# Altium schematic symbol library NCS21xR.SchLib: 1 symbol
Pins are listed as number, name and electrical type; pins without a type are passive.

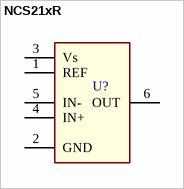
[diagram p0: symbol NCS21xR]

## NCS21xR
designator U?
Current-Shunt Monitor
footprint SOT-363
pins: 1 REF, 2 GND, 3 Vs, 4 IN+, 5 IN-, 6 OUT